# Altium footprint library PcbLib_C1206.PcbLib: 3 footprints
Each footprint in its own frame and in the unit in brackets; x right, y up, seen from the top. Pads: shape width x height; smd on the part's side, far side on the other; paste and mask are expansions set on the pad; w line width, h text height; cw(c..) or ccw(c..) is an arc to the next point about the centre after c.
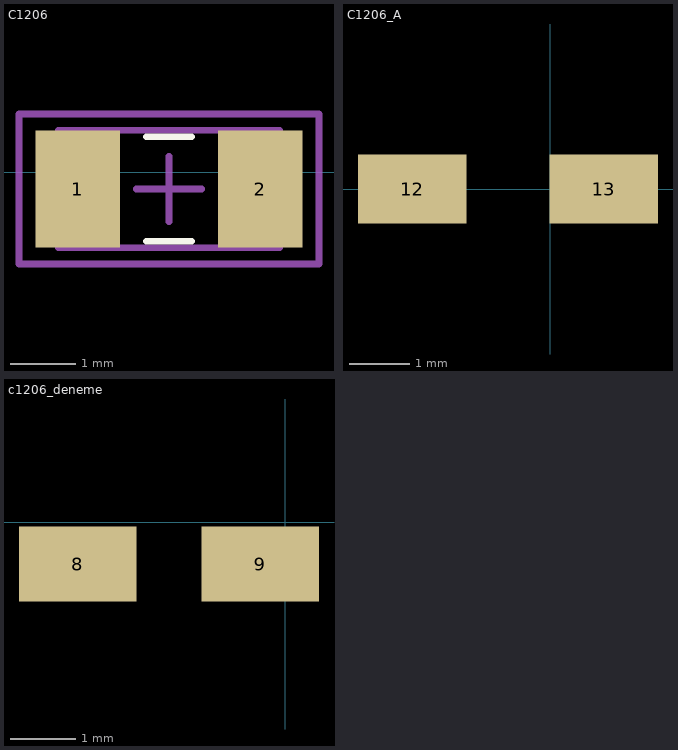
[diagram p0: the footprints below, top view; thin cyan lines are the x and y axes]

## C1206 [mm]
height 0.55
pads (2):
  rect 1.3x1.8 smd: 1(5.839,-0.254) 2(8.639,-0.254)
Top Overlay:
  lines w0.1: 6.889,-1.054 7.589,-1.054 ; 6.889,0.546 7.589,0.546
Mechanical 13:
  lines w0.1: 5.539,-1.154 8.939,-1.154 8.939,0.646 5.539,0.646 5.539,-1.154
Mechanical 15:
  lines w0.1: 6.739,-0.254 7.739,-0.254 ; 7.239,-0.754 7.239,0.246 ; 4.939,-1.404 9.539,-1.404 9.539,0.896 4.939,0.896 4.939,-1.404
3D body: height 0.55, standoff 0, extent 8.439,-1.154 8.939,0.646
3D body: height 0.55, standoff 0, extent 5.539,-1.154 6.039,0.646
3D body: height 0.55, standoff 0, extent 6.039,-1.154 8.439,0.646

## C1206_A [mm]
pads (2):
  rect 1.795x1.15 smd: 12(-2.286,0) 13(0.889,0)

## c1206_deneme [mm]
pads (2):
  rect 1.795x1.15 smd: 8(-3.175,-0.635) 9(-0.381,-0.635)